# Altium schematic symbol library C6782225_Part 1.SchLib: 1 symbol
Pins are listed as number, name and electrical type; pins without a type are passive.

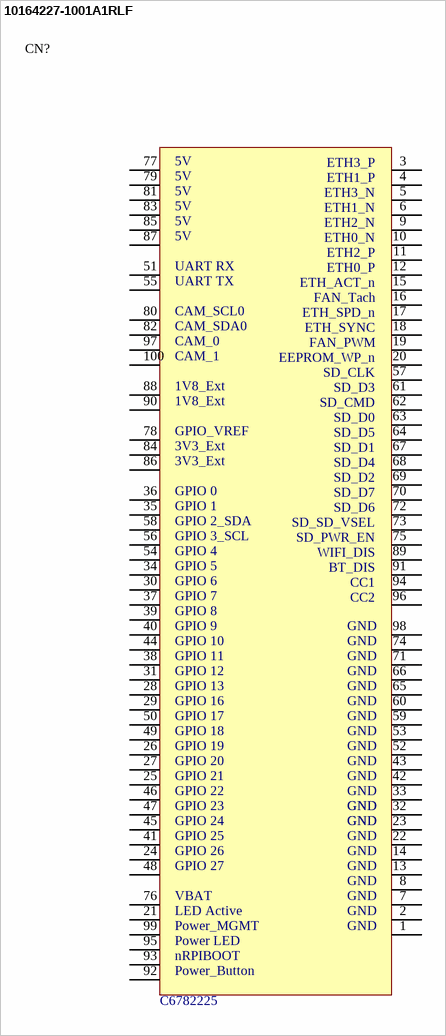
[diagram p0: symbol 10164227-1001A1RLF]

## 10164227-1001A1RLF
designator CN?  (value not drawn)
100 Position Board to Board Connector Surface Mount,P=0.4mm Gold; Name: C6782225; Source: LCSC
footprint CONN-SMD_100P-P0.40_10164227-1001A1RLF (100 Position Board to Board Connector Surface Mount,P=0.4mm Gold)
pins: 1, 2, 3, 4, 5, 6, 7, 8, 9, 10, 11, 12, 13, 14, 15, 16, 17, 18, 19, 20, 21, 22, 23, 24, 25, 26, 27, 28, 29, 30, 31, 32, 33, 34, 35, 36, 37, 38, 39, 40, 41, 42, 43, 44, 45, 46, 47, 48, 49, 50, 51, 52, 53, 54, 55, 56, 57, 58, 59, 60, 61, 62, 63, 64, 65, 66, 67, 68, 69, 70, 71, 72, 73, 74, 75, 76, 77, 78 GPIO_VREF, 79, 80, 81, 82, 83, 84, 85, 86, 87, 88, 89, 90, 91, 92, 93, 94, 95, 96, 97, 98, 99, 100
text: ETH3_P; 5V; ETH1_P; ETH3_N; ETH1_N; ETH2_N; ETH0_N; ETH2_P; ETH0_P; UART RX; ETH_ACT_n; UART TX; FAN_Tach; ETH_SPD_n; CAM_SCL0; ETH_SYNC; CAM_SDA0; FAN_PWM; CAM_0; EEPROM_WP_n; CAM_1; SD_CLK; SD_D3; 1V8_Ext; SD_CMD; SD_D0; SD_D5; SD_D1; 3V3_Ext; SD_D4; SD_D2; SD_D7; GPIO 0; SD_D6; GPIO 1; SD_SD_VSEL; GPIO 2_SDA; SD_PWR_EN; GPIO 3_SCL; WIFI_DIS; GPIO 4; BT_DIS; GPIO 5; CC1; GPIO 6; CC2; GPIO 7; GPIO 8; GPIO 9; GND; GPIO 10; GPIO 11; GPIO 12; GPIO 13; GPIO 16; GPIO 17; GPIO 18; GPIO 19; GPIO 20; GPIO 21; GPIO 22; GPIO 23; GPIO 24; GPIO 25; GPIO 26; GPIO 27; VBAT; LED Active; Power_MGMT; Power LED; nRPIBOOT; Power_Button